# Altium footprint library PcbLib1.PcbLib: 20 footprints (part 1 of 2)
Each footprint in its own frame and in the unit in brackets; x right, y up, seen from the top. Pads: shape width x height; smd on the part's side, far side on the other; paste and mask are expansions set on the pad; w line width, h text height; cw(c..) or ccw(c..) is an arc to the next point about the centre after c.
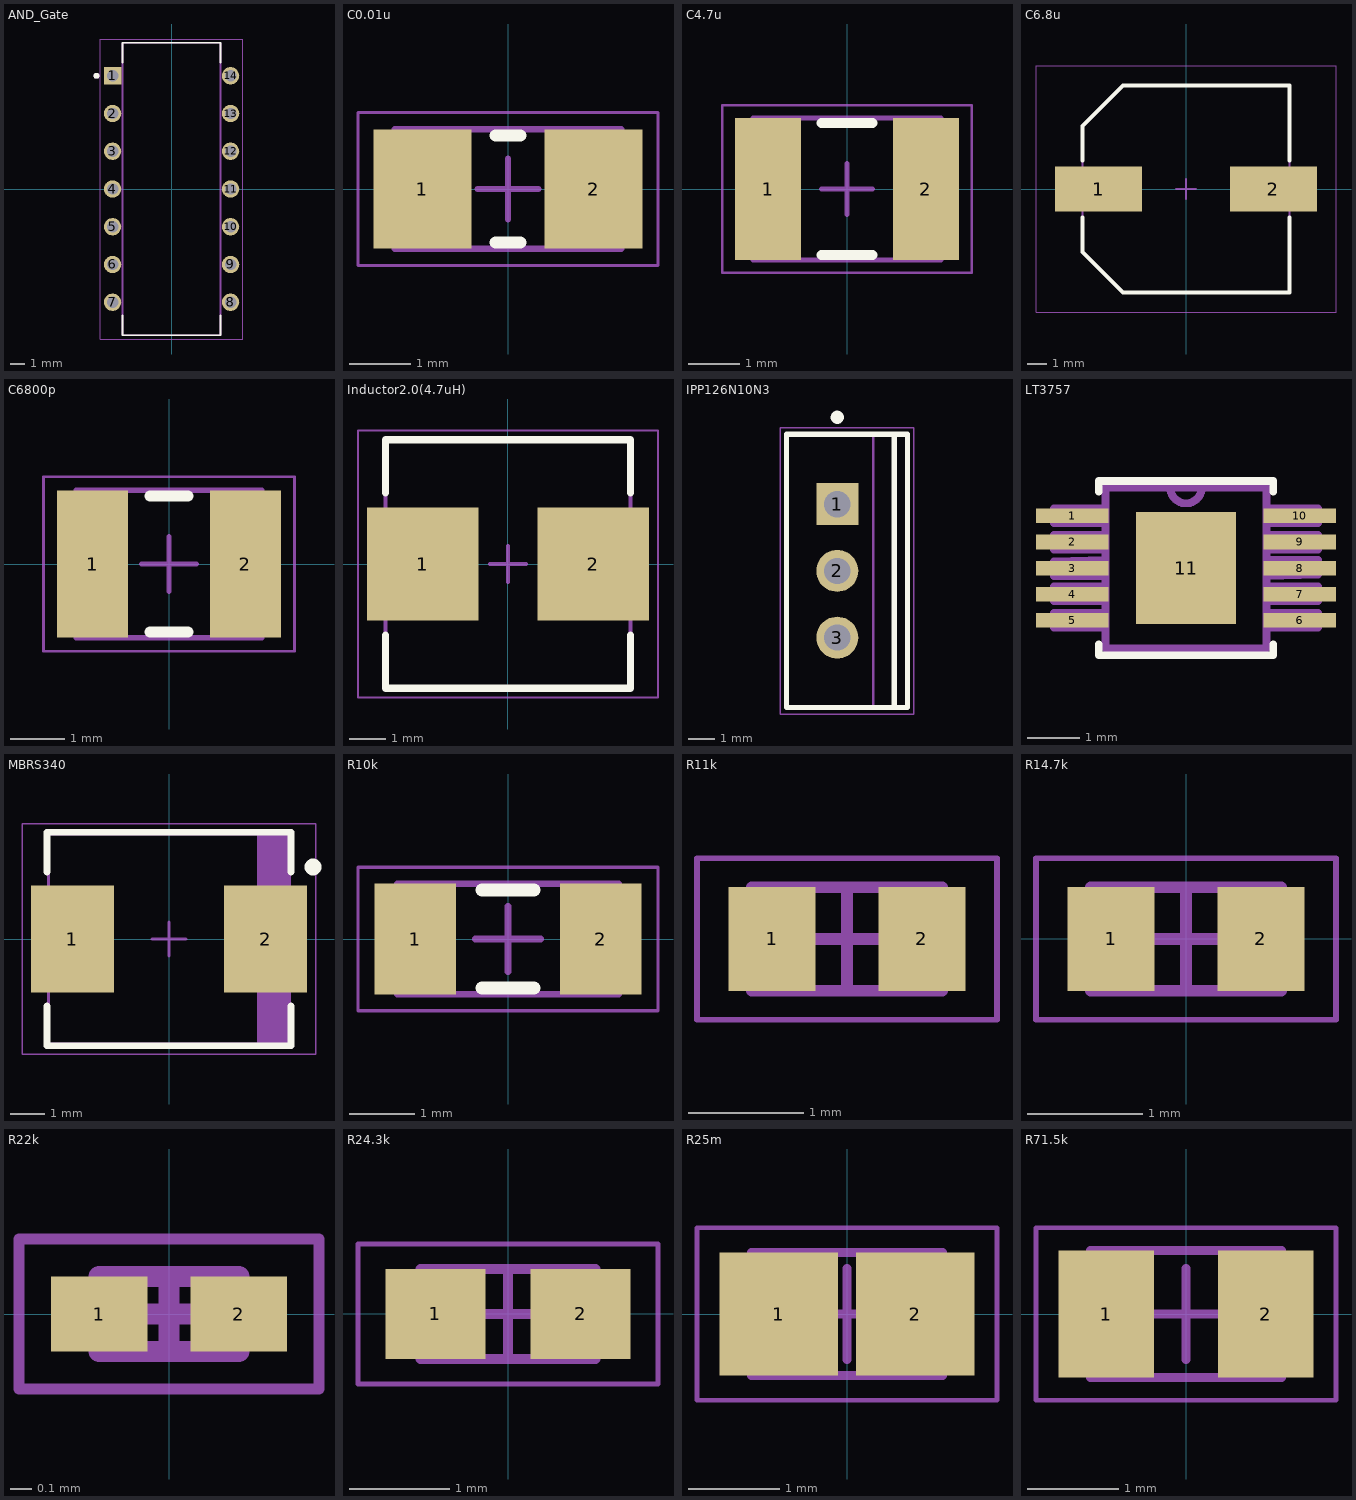
[diagram p0: the footprints below, top view; thin cyan lines are the x and y axes]

## AND_Gate [mm]
pads (14):
  rect 1.17x1.17 hole 0.77: 1(-3.97,7.62)
  round 1.17 hole 0.77: 2(-3.97,5.08) 3(-3.97,2.54) 4(-3.97,0) 5(-3.97,-2.54) 6(-3.97,-5.08) 7(-3.97,-7.62) 8(3.97,-7.62) 9(3.97,-5.08) 10(3.97,-2.54) 11(3.97,0) 12(3.97,2.54) 13(3.97,5.08) 14(3.97,7.62)
Top Overlay:
  circle w0.2: c-5.055,7.62 r0.1
  lines w0.127: -3.3,-8.525 -3.3,-9.845 3.3,-9.845 3.3,-8.525 ; -3.3,8.525 -3.3,9.845 3.3,9.845 3.3,8.525
Mechanical 13:
  circle w0.2: c-5.055,7.62 r0.1
  lines w0.127: -3.3,-9.845 -3.3,9.845 3.3,9.845 3.3,-9.845 -3.3,-9.845
Mechanical 15:
  lines w0.05: -4.805,-10.095 -4.805,10.095 4.805,10.095 4.805,-10.095 -4.805,-10.095

## C0.01u [mm] "Chip Capacitor, 2-Leads, Body 3.30x1.60mm, IPC Medium Density"
height 1.35
pads (2):
  rect 1.6x1.95 smd: 1(-1.4,0) 2(1.4,0)
Top Overlay:
  lines w0.2: -0.2,-0.875 0.2,-0.875 ; -0.2,0.875 0.2,0.875
Mechanical 13:
  lines w0.1: -1.85,-0.975 1.85,-0.975 1.85,0.975 -1.85,0.975 -1.85,-0.975
Mechanical 15:
  lines w0.05: -2.45,-1.25 2.45,-1.25 2.45,1.25 -2.45,1.25 -2.45,-1.25
  lines w0.1: -0.5,0 0.5,0 ; 0,-0.5 0,0.5
3D body "CAPC3316X14N.step": height 1.35, standoff 0, extent -1.85,-0.975 1.85,0.975

## C4.7u [mm] "Chip Capacitor, 2-Leads, Body 3.25x2.50mm, IPC Medium Density"
height 2.8
pads (2):
  rect 1.3x2.8 smd: 1(-1.55,0) 2(1.55,0)
Top Overlay:
  lines w0.2: -0.5,-1.3 0.5,-1.3 ; -0.5,1.3 0.5,1.3
Mechanical 13:
  lines w0.1: -1.85,-1.4 -1.85,1.4 1.85,1.4 1.85,-1.4 -1.85,-1.4
Mechanical 15:
  lines w0.05: -2.45,-1.65 -2.45,1.65 2.45,1.65 2.45,-1.65 -2.45,-1.65
  lines w0.1: -0.5,0 0.5,0 ; 0,-0.5 0,0.5
3D body "CAPC3225X28N.step": height 2.8, standoff 0, extent -1.85,-1.4 1.85,1.4

## C6.8u [mm] "Aluminum Electrolytic Capacitor, Body 10.30x10.30x14.00mm, IPC Low Density"
height 14
pads (2):
  rect 4.4x2.3 smd: 1(-4.425,0) 2(4.425,0)
Top Overlay:
  lines w0.2: -5.25,-1.45 -5.25,-3.2 -3.2,-5.25 5.25,-5.25 5.25,-1.45 ; -5.25,1.45 -5.25,3.2 -3.2,5.25 5.25,5.25 5.25,1.45
Mechanical 13:
  lines w0.1: -5.25,-3.2 -3.2,-5.25 5.25,-5.25 5.25,5.25 -3.2,5.25 -5.25,3.2 -5.25,-3.2
Mechanical 15:
  lines w0.05: -7.6,-6.25 -7.6,6.25 7.6,6.25 7.6,-6.25 -7.6,-6.25
  lines w0.1: -0.5,0 0.5,0 ; 0,-0.5 0,0.5
3D body "CAPAE110103X140M.step": height 14, standoff 0, extent -5.5,-5.25 5.5,5.25

## C6800p [mm] "Chip Capacitor, 2-Leads, Body 3.20x2.50mm, IPC Medium Density"
height 2.2
pads (2):
  rect 1.3x2.7 smd: 1(-1.4,0) 2(1.4,0)
Top Overlay:
  lines w0.2: -0.35,-1.25 0.35,-1.25 ; -0.35,1.25 0.35,1.25
Mechanical 13:
  lines w0.1: -1.7,-1.35 1.7,-1.35 1.7,1.35 -1.7,1.35 -1.7,-1.35
Mechanical 15:
  lines w0.05: -2.3,-1.6 2.3,-1.6 2.3,1.6 -2.3,1.6 -2.3,-1.6
  lines w0.1: -0.5,0 0.5,0 ; 0,-0.5 0,0.5
3D body "CAPC3225X22N.step": height 2.2, standoff 0, extent -1.7,-1.35 1.7,1.35

## Inductor2.0(4.7uH) [mm] "Molded Inductor, 2-Leads, Body 6.40x6.60mm, IPC Medium Density"
height 3
pads (2):
  rect 3.05x3.1 smd: 1(-2.325,0) 2(2.325,0)
Top Overlay:
  lines w0.2: -3.35,-1.95 -3.35,-3.4 3.35,-3.4 3.35,-1.95 ; -3.35,1.95 -3.35,3.4 3.35,3.4 3.35,1.95
Mechanical 13:
  lines w0.1: -3.35,-3.4 -3.35,3.4 3.35,3.4 3.35,-3.4 -3.35,-3.4
Mechanical 15:
  lines w0.05: -4.1,-3.65 -4.1,3.65 4.1,3.65 4.1,-3.65 -4.1,-3.65
  lines w0.1: -0.5,0 0.5,0 ; 0,-0.5 0,0.5
3D body "INDM6466X30N.step": height 3, standoff 0, extent -3.57,-3.4 3.57,3.4

## IPP126N10N3 [mm]
pads (3):
  rect 1.6x1.6 hole 1: 1(92.583,478.282)
  round 1.6 hole 1: 2(92.583,475.742) 3(92.583,473.202)
Top Overlay:
  circle w0.25: c92.583,481.592 r0.125
  lines w0.2: 94.753,470.542 94.753,480.942 ; 90.653,470.542 90.653,480.942 95.253,480.942 95.253,470.542 90.653,470.542
Mechanical 13:
  lines w0.1: 93.953,470.542 93.953,480.942 ; 90.653,470.542 95.253,470.542 95.253,480.942 90.653,480.942 90.653,470.542
Mechanical 15:
  lines w0.05: 90.403,470.292 95.503,470.292 95.503,481.192 90.403,481.192 90.403,470.292
  lines w0.1: 92.083,475.742 93.083,475.742 ; 92.583,475.242 92.583,476.242
3D body: height 20.75, standoff 19.83, extent 93.953,470.717 95.253,480.767
3D body: height 18.32, standoff 17.95, extent 93.953,470.717 95.253,473.867
3D body: height 18.32, standoff 17.95, extent 93.953,477.617 95.253,480.767
3D body: height 17.95, standoff 17.58, extent 93.953,470.717 95.253,473.867
3D body: height 17.95, standoff 17.58, extent 93.953,477.617 95.253,480.767
3D body: height 18.67, standoff 18.32, extent 93.953,470.717 95.253,473.903
3D body: height 18.67, standoff 18.32, extent 93.953,477.581 95.253,480.767
3D body: height 17.59, standoff 17.23, extent 93.953,470.717 95.253,473.903
3D body: height 17.59, standoff 17.23, extent 93.953,477.581 95.253,480.767
3D body: height 19, standoff 18.67, extent 93.953,470.717 95.253,474.01
3D body: height 19, standoff 18.67, extent 93.953,477.474 95.253,480.767
3D body: height 17.24, standoff 16.91, extent 93.953,470.717 95.253,474.01
3D body: height 17.24, standoff 16.91, extent 93.953,477.474 95.253,480.767
3D body: height 19.28, standoff 18.99, extent 93.953,470.717 95.253,474.183
3D body: height 19.28, standoff 18.99, extent 93.953,477.301 95.253,480.767
3D body: height 16.91, standoff 16.62, extent 93.953,470.717 95.253,474.183
3D body: height 16.91, standoff 16.62, extent 93.953,477.301 95.253,480.767
3D body: height 19.51, standoff 19.28, extent 93.953,470.717 95.253,474.416
3D body: height 19.51, standoff 19.28, extent 93.953,477.068 95.253,480.767
3D body: height 16.63, standoff 16.39, extent 93.953,470.717 95.253,474.416
3D body: height 16.63, standoff 16.39, extent 93.953,477.068 95.253,480.767
3D body: height 19.69, standoff 19.51, extent 93.953,470.717 95.253,474.7
3D body: height 19.69, standoff 19.51, extent 93.953,476.784 95.253,480.767
3D body: height 16.4, standoff 16.22, extent 93.953,470.717 95.253,474.7
3D body: height 16.4, standoff 16.22, extent 93.953,476.784 95.253,480.767
3D body: height 19.79, standoff 19.68, extent 93.953,470.717 95.253,475.024
3D body: height 19.79, standoff 19.68, extent 93.953,476.46 95.253,480.767
3D body: height 16.22, standoff 16.11, extent 93.953,470.717 95.253,475.024
3D body: height 16.22, standoff 16.11, extent 93.953,476.46 95.253,480.767
3D body: height 19.83, standoff 19.79, extent 93.953,470.717 95.253,475.376
3D body: height 19.83, standoff 19.79, extent 93.953,476.108 95.253,480.767
3D body: height 16.12, standoff 16.08, extent 93.953,470.717 95.253,475.376
3D body: height 16.12, standoff 16.08, extent 93.953,476.108 95.253,480.767
3D body: height 16.08, standoff 14.35, extent 93.953,470.717 95.253,480.767
3D body: height 14.35, standoff 4.8, extent 90.653,470.542 95.253,480.942
3D body: height 0, standoff -1.6, extent 92.348,472.822 92.818,473.582
3D body: height 4.8, standoff 0, extent 92.348,472.612 92.818,473.792
3D body: height 0, standoff -1.6, extent 92.348,475.362 92.818,476.122
3D body: height 4.8, standoff 0, extent 92.348,475.152 92.818,476.332
3D body: height 0, standoff -1.6, extent 92.348,477.902 92.818,478.662
3D body: height 4.8, standoff 0, extent 92.348,477.692 92.818,478.872

## LT3757 [mil]
pads (11):
  rect 55x11 smd: 1(9209,1154.4) 2(9209,1134.7) 3(9209,1115) 4(9209,1095.3) 5(9209,1075.6) 6(9381,1075.6) 7(9381,1095.3) 8(9381,1115) 9(9381,1134.7) 10(9381,1154.4)
  rect 76x85 smd paste-78.74: 11(9295,1115)
Top Overlay:
  lines w6: 9229,1057 9229,1049 9361,1049 9361,1057 ; 9229,1173 9229,1181 9361,1181 9361,1173
Top Paste:
  region: 9333,1072.5 9257,1072.5 9257,1157.5 9333,1157.5
Mechanical 13:
  lines w6: 9283,1176 ccw(c9295,1176) 9307,1176 ; 9283,1176 9234,1176 9234,1054 9356,1054 9356,1176 9307,1176 ; 9283,1176 9307,1176 ; 9195,1070 9234,1070 9234,1081 9195,1081 9195,1070 ; 9195,1090 9234,1090 9234,1101 9195,1101 9195,1090 ; 9195,1109 9234,1109 9234,1121 9195,1120 9195,1109 ; 9195,1129 9234,1129 9234,1140 9195,1140 9195,1129 ; 9195,1149 9234,1149 9234,1160 9195,1160 9195,1149 ; 9356,1070 9395,1070 9395,1081 9356,1081 9356,1070 ; 9356,1090 9395,1090 9395,1101 9356,1101 9356,1090 ; 9356,1109 9395,1110 9395,1121 9356,1121 9356,1109 ; 9356,1129 9395,1129 9395,1140 9356,1140 9356,1129 ; 9356,1149 9395,1149 9395,1160 9356,1160 9356,1149
3D body "step_temp.STEP": height 20.47, standoff -22.83, extent 9235.94,1018.54 9354.06,1211.46

## MBRS340 [mm] "Molded Diode, 2-Leads, Body 6.86x5.91mm, IPC Medium Density"
height 2.62
pads (2):
  rect 2.45x3.15 smd: 1(-2.85,0) 2(2.85,0)
Top Overlay:
  circle w0.25: c4.25,2.125 r0.125
  lines w0.2: -3.6,-1.975 -3.6,-3.15 3.6,-3.15 3.6,-1.975 ; -3.6,1.975 -3.6,3.15 3.6,3.15 3.6,1.975
Mechanical 13:
  rectangle: 2.599,-3.11 3.555,3.11
  lines w0.1: -3.555,-3.11 3.555,-3.11 3.555,3.11 -3.555,3.11 -3.555,-3.11
Mechanical 15:
  lines w0.05: -4.325,-3.4 4.325,-3.4 4.325,3.4 -4.325,3.4 -4.325,-3.4
  lines w0.1: -0.5,0 0.5,0 ; 0,-0.5 0,0.5
3D body "DIOM6959X26N.step": height 2.62, standoff 0, extent -3.775,-3.11 3.775,3.11

## R10k [mm] "Chip Resistor, 2-Leads, Body 3.20x1.60mm, IPC Medium Density"
height 0.65
pads (2):
  rect 1.25x1.7 smd: 1(-1.425,0) 2(1.425,0)
Top Overlay:
  lines w0.2: -0.4,-0.75 0.4,-0.75 ; -0.4,0.75 0.4,0.75
Mechanical 13:
  lines w0.1: -1.7,-0.85 1.7,-0.85 1.7,0.85 -1.7,0.85 -1.7,-0.85
Mechanical 15:
  lines w0.05: -2.3,-1.1 2.3,-1.1 2.3,1.1 -2.3,1.1 -2.3,-1.1
  lines w0.1: -0.5,0 0.5,0 ; 0,-0.5 0,0.5
3D body "RESC3216X06N.step": height 0.65, standoff 0, extent -1.7,-0.85 1.7,0.85

## R11k [mm]
pads (2):
  rect 0.75x0.9 smd: 1(1272.5,18.542) 2(1273.8,18.542)
Mechanical 13:
  lines w0.1: 1272.325,18.092 1273.975,18.092 1273.975,18.992 1272.325,18.992 1272.325,18.092
Mechanical 15:
  lines w0.05: 1271.85,17.842 1274.45,17.842 1274.45,19.242 1271.85,19.242 1271.85,17.842
  lines w0.1: 1272.7,18.542 1273.6,18.542 ; 1273.15,18.092 1273.15,18.992
3D body "RESC1508X06N.step": height 0.58, standoff 0, extent 1272.325,18.092 1273.975,18.992

## R14.7k [mm] "Chip Resistor, 2-Leads, Body 1.55x0.80mm, IPC Medium Density"
height 0.58
pads (2):
  rect 0.75x0.9 smd: 1(-0.65,0) 2(0.65,0)
Mechanical 13:
  lines w0.1: -0.825,-0.45 -0.825,0.45 0.825,0.45 0.825,-0.45 -0.825,-0.45
Mechanical 15:
  lines w0.05: -1.3,-0.7 -1.3,0.7 1.3,0.7 1.3,-0.7 -1.3,-0.7
  lines w0.1: -0.45,0 0.45,0 ; 0,-0.45 0,0.45
3D body "RESC1508X06N.step": height 0.58, standoff 0, extent -0.825,-0.45 0.825,0.45

## R22k [mm] "Chip Resistor, 2-Leads, Body 0.60x0.30mm, IPC Medium Density"
height 0.26
pads (2):
  rect 0.45x0.35 smd: 1(-0.325,0) 2(0.325,0)
Mechanical 13:
  lines w0.1: -0.325,-0.175 0.325,-0.175 0.325,0.175 -0.325,0.175 -0.325,-0.175
Mechanical 15:
  lines w0.05: -0.7,-0.35 0.7,-0.35 0.7,0.35 -0.7,0.35 -0.7,-0.35
  lines w0.1: -0.175,0 0.175,0 ; 0,-0.175 0,0.175
3D body "RESC0603X03N.step": height 0.26, standoff 0, extent -0.325,-0.175 0.325,0.175

## R24.3k [mm] "Chip Resistor, 2-Leads, Body 1.60x0.80mm, IPC Medium Density"
height 0.55
pads (2):
  rect 1x0.9 smd: 1(-0.725,0) 2(0.725,0)
Mechanical 13:
  lines w0.1: -0.875,-0.45 0.875,-0.45 0.875,0.45 -0.875,0.45 -0.875,-0.45
Mechanical 15:
  lines w0.05: -1.5,-0.7 1.5,-0.7 1.5,0.7 -1.5,0.7 -1.5,-0.7
  lines w0.1: -0.45,0 0.45,0 ; 0,-0.45 0,0.45
3D body "RESC1608X06N.step": height 0.55, standoff 0, extent -0.875,-0.45 0.875,0.45

## R25m [mm] "Chip Resistor, 2-Leads, Body 2.00x1.25mm, IPC Medium Density"
height 0.8
pads (2):
  rect 1.3x1.35 smd: 1(-0.75,0) 2(0.75,0)
Mechanical 13:
  lines w0.1: -1.05,-0.675 1.05,-0.675 1.05,0.675 -1.05,0.675 -1.05,-0.675
Mechanical 15:
  lines w0.05: -1.65,-0.95 1.65,-0.95 1.65,0.95 -1.65,0.95 -1.65,-0.95
  lines w0.1: -0.5,0 0.5,0 ; 0,-0.5 0,0.5
3D body "RESC2012X08N.step": height 0.8, standoff 0, extent -1.05,-0.675 1.05,0.675

## R71.5k [mm] "Chip Resistor, 2-Leads, Body 2.00x1.25mm, IPC Medium Density"
height 0.55
pads (2):
  rect 1.05x1.4 smd: 1(-0.875,0) 2(0.875,0)
Mechanical 13:
  lines w0.1: -1.05,-0.7 -1.05,0.7 1.05,0.7 1.05,-0.7 -1.05,-0.7
Mechanical 15:
  lines w0.05: -1.65,-0.95 -1.65,0.95 1.65,0.95 1.65,-0.95 -1.65,-0.95
  lines w0.1: -0.5,0 0.5,0 ; 0,-0.5 0,0.5
3D body "RESC2012X06N.step": height 0.55, standoff 0, extent -1.05,-0.7 1.05,0.7